# Altium footprint library Footprint_lib.PcbLib: 29 footprints (part 1 of 2)
Each footprint in its own frame and in the unit in brackets; x right, y up, seen from the top. Pads: shape width x height; smd on the part's side, far side on the other; paste and mask are expansions set on the pad; w line width, h text height; cw(c..) or ccw(c..) is an arc to the next point about the centre after c.
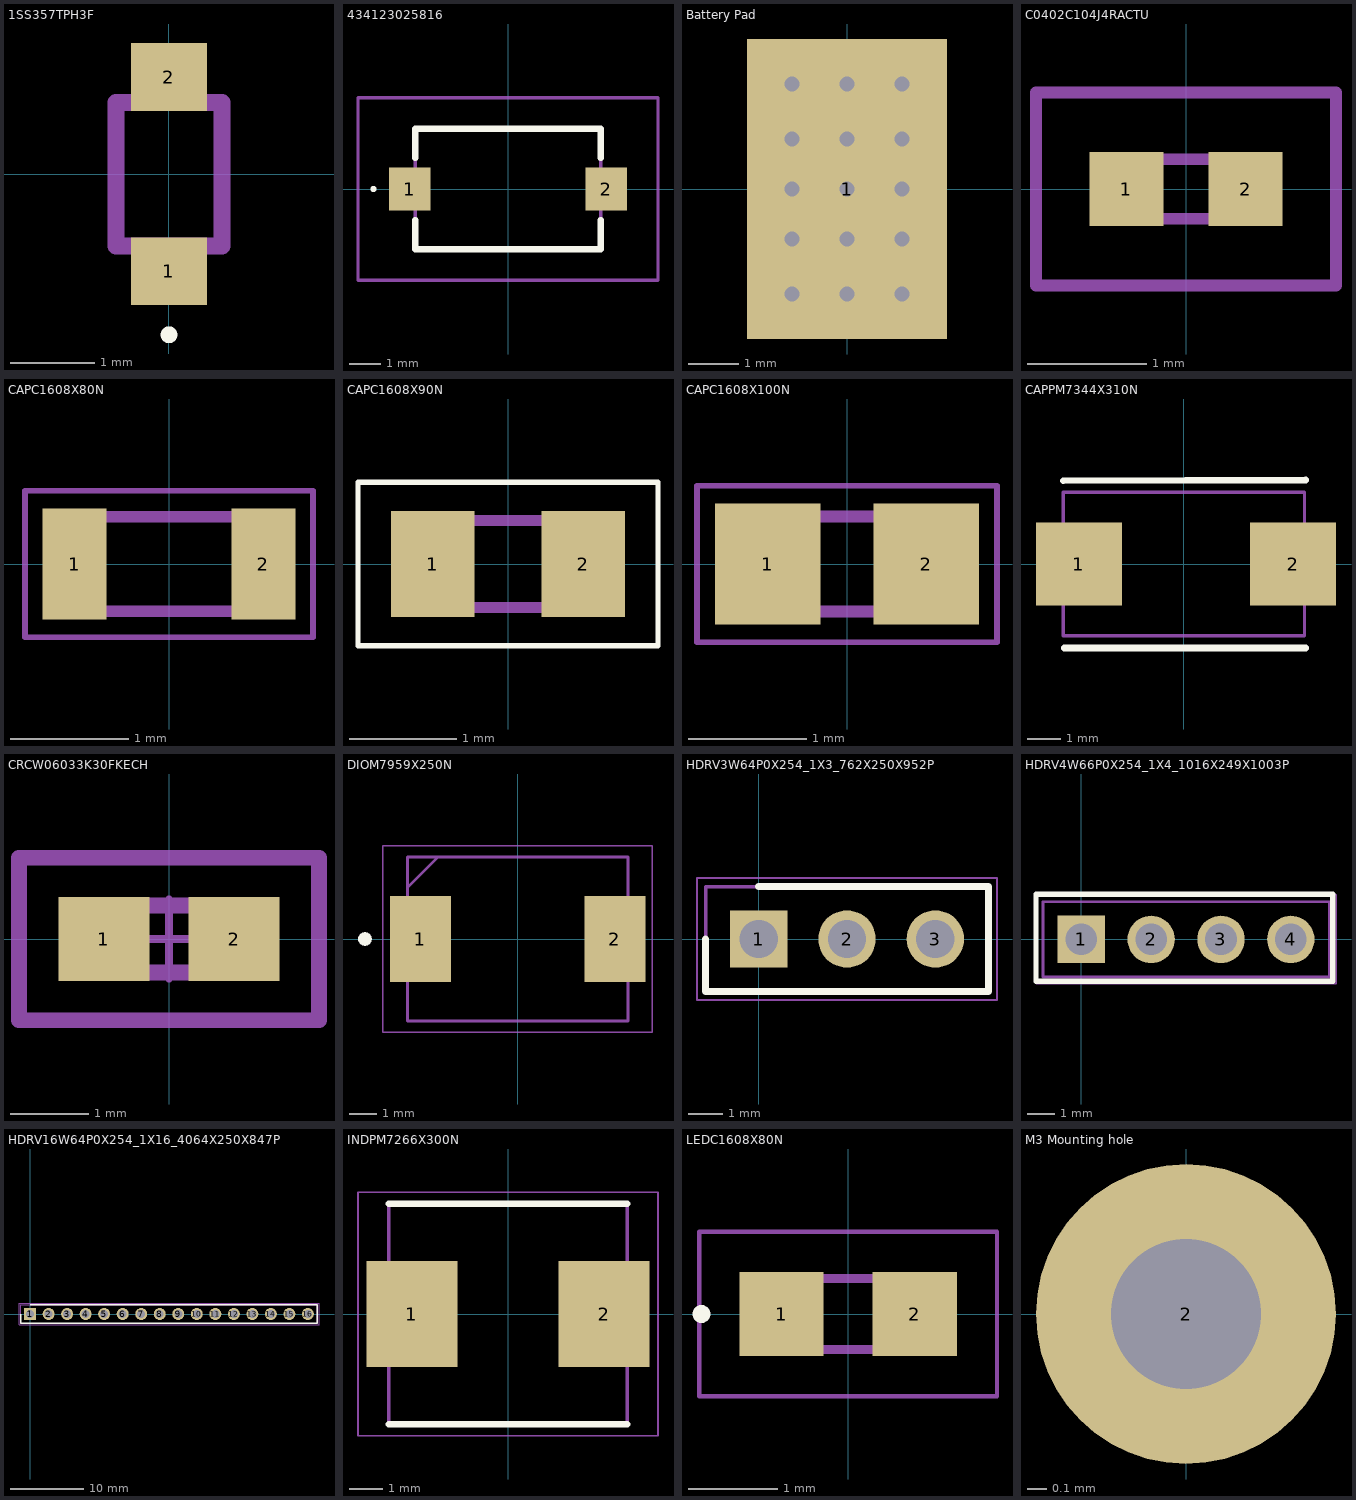
[diagram p0: the footprints below, top view; thin cyan lines are the x and y axes]

## 1SS357TPH3F [mm]
pads (2):
  rect 0.9x0.8 smd: 1(0,-1.15) 2(0,1.15)
Top Overlay:
  lines w0.1: -0.05,-1.9 cw(c0,-1.9) 0.05,-1.9 cw(c0,-1.9) -0.05,-1.9
Top 3D Body:
  lines w0.2: -0.625,-0.85 0.625,-0.85 0.625,0.85 -0.625,0.85 -0.625,-0.85
3D body "CUS521,H3F.stp": height 0.9, standoff -0.05, extent -0.625,-1.25 0.625,1.25

## 434123025816 [mm]
pads (2):
  rect 1.35x1.4 smd: 1(-3.175,0) 2(3.175,0)
Top Overlay:
  lines w0.1: -4.4,0 ccw(c-4.35,0) -4.3,0 ccw(c-4.35,0) -4.4,0
  lines w0.2: -3,-1 -3,-1.95 3,-1.95 3,-1 ; -3,1 -3,1.95 3,1.95 3,1
Top 3D Body:
  lines w0.1: -3,-1.95 -3,1.95 3,1.95 3,-1.95 -3,-1.95
Top Courtyard:
  lines w0.1: -4.85,-2.95 -4.85,2.95 4.85,2.95 4.85,-2.95 -4.85,-2.95
3D body "434123025816.stp": height 2.75, standoff 0, extent -3.715,-1.95 3.715,1.95

## Battery Pad [mm]
pads (1):
  rect 4x6 smd: 1(0,0)
via 1.1,-2.1 diameter 0.5 hole 0.3
via 0,-2.1 diameter 0.5 hole 0.3
via -1.1,-2.1 diameter 0.5 hole 0.3
via 1.1,-1 diameter 0.5 hole 0.3
via 0,-1 diameter 0.5 hole 0.3
via -1.1,-1 diameter 0.5 hole 0.3
via 1.1,0 diameter 0.5 hole 0.3
via -1.1,0 diameter 0.5 hole 0.3
via 1.1,1 diameter 0.5 hole 0.3
via 0,1 diameter 0.5 hole 0.3
via -1.1,1 diameter 0.5 hole 0.3
via 1.1,2.1 diameter 0.5 hole 0.3
via 0,2.1 diameter 0.5 hole 0.3
via -1.1,2.1 diameter 0.5 hole 0.3
via 0,0 diameter 0.5 hole 0.3

## C0402C104J4RACTU [mm]
pads (2):
  rect 0.62x0.62 smd: 1(-0.5,0) 2(0.5,0)
Top 3D Body:
  lines w0.1: -0.5,-0.25 -0.5,0.25 0.5,0.25 0.5,-0.25 -0.5,-0.25
Top Courtyard:
  lines w0.1: -1.26,-0.81 -1.26,0.81 1.26,0.81 1.26,-0.81 -1.26,-0.81
3D body "C0402C820M4GACTU.stp": height 0.55, standoff 0, extent -0.52,-0.28 0.53,0.27

## CAPC1608X80N [mm]
pads (2):
  rect 0.54x0.94 smd: 1(-0.8,0) 2(0.8,0)
Top 3D Body:
  lines w0.1: -0.8,-0.4 -0.8,0.4 0.8,0.4 0.8,-0.4 -0.8,-0.4
Top Courtyard:
  lines w0.05: -1.22,-0.62 -1.22,0.62 1.22,0.62 1.22,-0.62 -1.22,-0.62
3D body "C1608X5R1E475K080AC.stp": height 0.8, standoff 0, extent -0.8,-0.4 0.8,0.4

## CAPC1608X90N [mm]
pads (2):
  rect 0.78x0.99 smd: 1(-0.7,0) 2(0.7,0)
Top Overlay:
  lines w0.05: -1.397,-0.762 1.397,-0.762 1.397,0.762 -1.27,0.762 -1.397,0.762 -1.397,-0.762
Top 3D Body:
  lines w0.1: -0.8,-0.405 -0.8,0.405 0.8,0.405 0.8,-0.405 -0.8,-0.405
3D body "0603YC104K4T4A.stp": height 0.9, standoff 0, extent -0.8,-0.405 0.8,0.405

## CAPC1608X100N [mm]
pads (2):
  rect 0.89x1.02 smd: 1(-0.67,0) 2(0.67,0)
Top 3D Body:
  lines w0.1: -0.8,-0.4 -0.8,0.4 0.8,0.4 0.8,-0.4 -0.8,-0.4
Top Courtyard:
  lines w0.05: -1.265,-0.66 -1.265,0.66 1.265,0.66 1.265,-0.66 -1.265,-0.66
3D body "CM105X5R226M16AT.stp": height 1, standoff 0, extent -0.8,-0.4 0.8,0.4

## CAPPM7344X310N [mm]
pads (2):
  rect 2.6x2.5 smd: 1(-3.175,0) 2(3.302,0)
Top Overlay:
  lines w0.2: -3.65,2.524 3.683,2.54 ; -3.617,-2.54 3.683,-2.54
Top 3D Body:
  lines w0.1: -3.65,-2.175 3.65,-2.175 3.65,2.175 -3.65,2.175 -3.65,-2.175
3D body "TAJD107K016SNJV.stp": height 3.1, standoff 0, extent -3.65,-2.175 3.65,2.175

## CRCW06033K30FKECH [mm] "resistor 3.3k 0604 1% 330mW"
pads (2):
  rect 1.158x1.062 smd paste+0 mask+0: 1(-0.827,0) 2(0.827,0)
Top Assembly:
  lines w0.2: -1.906,-1.031 -1.906,1.031 1.906,1.031 1.906,-1.031 -1.906,-1.031
Top 3D Body:
  lines w0.2: -0.8,-0.425 -0.8,0.425 0.8,0.425 0.8,-0.425 -0.8,-0.425
Top Courtyard:
  lines w0.2: -1.906,-1.031 -1.906,1.031 1.906,1.031 1.906,-1.031 -1.906,-1.031
Top Component Center:
  lines w0.1: -0.5,0 0.5,0 ; 0,-0.5 0,0.5
3D body "Res_Vishay_CRCW06031K00FKEAHP_eec.STEP": height 0.25, standoff 0, extent -1.906,-1.031 1.906,1.031

## DIOM7959X250N [mm]
pads (3):
  rect 2.2x3.1 smd: 1(-3.5,0) 2(3.5,0)
  round 0.5 on Top Overlay: ""(-5.5,0)
Top 3D Body:
  lines w0.1: -3.97,1.852 -2.87,2.952 ; -3.97,-2.952 3.97,-2.952 3.97,2.952 -3.97,2.952 -3.97,-2.952
Top Courtyard:
  lines w0.05: -4.85,-3.36 4.85,-3.36 4.85,3.36 -4.85,3.36 -4.85,-3.36
3D body "B540C-13-F.stp": height 2.5, standoff 0, extent -3.948,-2.81 3.848,2.81

## HDRV3W64P0X254_1X3_762X250X952P [mm]
pads (3):
  rect 1.65x1.65 hole 1.1: 1(0,0)
  round 1.65 hole 1.1: 2(2.54,0) 3(5.08,0)
Top Overlay:
  lines w0.2: -1.524,0 -1.524,-1.504 6.604,-1.504 6.604,1.504 0,1.504
Top 3D Body:
  lines w0.1: -1.524,-1.504 6.604,-1.504 6.604,1.504 -1.524,1.504 -1.524,-1.504
Top Courtyard:
  lines w0.05: -1.774,-1.754 6.854,-1.754 6.854,1.754 -1.774,1.754 -1.774,-1.754
3D body "PH1-03-UA.stp": height 9.52, standoff -3.56, extent -1.27,-1.25 6.35,1.25

## HDRV4W66P0X254_1X4_1016X249X1003P [mm]
pads (4):
  rect 1.725x1.725 hole 1.15: 1(0,0)
  round 1.725 hole 1.15: 2(2.54,0) 3(5.08,0) 4(7.62,0)
Top Overlay:
  lines w0.2: -1.651,-1.524 9.144,-1.524 9.144,1.651 -1.651,1.651 -1.651,-1.524
Top 3D Body:
  lines w0.1: -1.395,-1.37 9.015,-1.37 9.015,1.37 -1.395,1.37 -1.395,-1.37
Top Courtyard:
  lines w0.05: -1.645,-1.62 9.265,-1.62 9.265,1.62 -1.645,1.62 -1.645,-1.62
3D body "22-28-4042.stp": height 9.78, standoff -3.05, extent -1.27,-1.245 8.89,1.245

## HDRV16W64P0X254_1X16_4064X250X847P [mm]
pads (16):
  rect 1.65x1.65 hole 1.1: 1(0,0)
  round 1.65 hole 1.1: 2(2.54,0) 3(5.08,0) 4(7.62,0) 5(10.16,0) 6(12.7,0) 7(15.24,0) 8(17.78,0) 9(20.32,0) 10(22.86,0) 11(25.4,0) 12(27.94,0) 13(30.48,0) 14(33.02,0) 15(35.56,0) 16(38.1,0)
Top Overlay:
  lines w0.2: -1.27,0 -1.27,-1.25 39.37,-1.25 39.37,1.25 0,1.25
Top 3D Body:
  lines w0.1: -1.27,-1.25 39.37,-1.25 39.37,1.25 -1.27,1.25 -1.27,-1.25
Top Courtyard:
  lines w0.05: -1.52,-1.5 39.62,-1.5 39.62,1.5 -1.52,1.5 -1.52,-1.5
3D body "PH1-16-UA.stp": height 8.47, standoff -3.05, extent -1.27,-1.25 39.37,1.25

## INDPM7266X300N [mm]
pads (2):
  rect 2.75x3.2 smd: 1(-2.9,0) 2(2.9,0)
Top Overlay:
  lines w0.2: -3.6,-3.325 3.6,-3.325 ; -3.6,3.325 3.6,3.325
Top 3D Body:
  lines w0.1: -3.6,-3.325 -3.6,3.325 3.6,3.325 3.6,-3.325 -3.6,-3.325
Top Courtyard:
  lines w0.05: -4.525,-3.675 -4.525,3.675 4.525,3.675 4.525,-3.675 -4.525,-3.675
3D body "ASPI-0630HI-6R8M-T15.stp": height 3, standoff 0, extent -3.6,-3.325 3.6,3.325

## LEDC1608X80N [mm]
pads (2):
  rect 0.95x0.95 smd: 1(-0.75,0) 2(0.75,0)
Top Overlay:
  lines w0.1: -1.701,0 cw(c-1.651,0) -1.601,0 cw(c-1.651,0) -1.701,0
Top 3D Body:
  lines w0.1: -0.8,0.133 -0.533,0.4 ; -0.8,-0.4 -0.8,0.4 0.8,0.4 0.8,-0.4 -0.8,-0.4
Top Courtyard:
  lines w0.05: -1.675,-0.925 -1.675,0.925 1.675,0.925 1.675,-0.925 -1.675,-0.925
3D body "150060VS75000.stp": height 0.7, standoff 0, extent -0.83,-0.4 0.77,0.4

## M3 Mounting hole [mil] "Mounting hole for m3 screws"
pads (1):
  round 60 hole 30: 2(0,0)